# EAGLE library part BMI160 (library BMI160)
BMI160 2.5 x 3 mm Tiaxial Accelerometer / Gyroscope Inertial Measurement Unit http://www.snapeda.com/parts/BMI160/Bosch/view-part/#
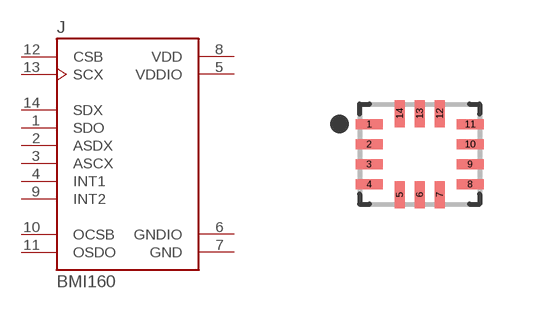
[diagram p0: symbol with the pads of LGA14R50P5X4_300X250X83; footprint LGA14R50P5X4_300X250X83]

Designator prefix J

## BMI160 (MANUFACTURER: Bosch)  [LGA14R50P5X4_300X250X83]
1  SDO
2  ASDX
3  ASCX
4  INT1
5  VDDIO  pwr
6  GNDIO  pwr
7  GND  pwr
8  VDD  pwr
9  INT2
10  OCSB
11  OSDO
12  CSB  in
13  SCX  in
14  SDX

## Footprint LGA14R50P5X4_300X250X83 (pad centres in mm)
smd 0.675 x 0.25: 1 -1.262,0.75; 2 -1.262,0.25; 3 -1.262,-0.25; 4 -1.262,-0.75; 8 1.262,-0.75; 9 1.262,-0.25; 10 1.262,0.25; 11 1.262,0.75
smd 0.25 x 0.675: 5 -0.5,-1.012; 6 0,-1.012; 7 0.5,-1.012; 12 0.5,1.012; 13 0,1.012; 14 -0.5,1.012